# EAGLE library part BEAGLE-EXPANSIONBOARD (library Beagle)
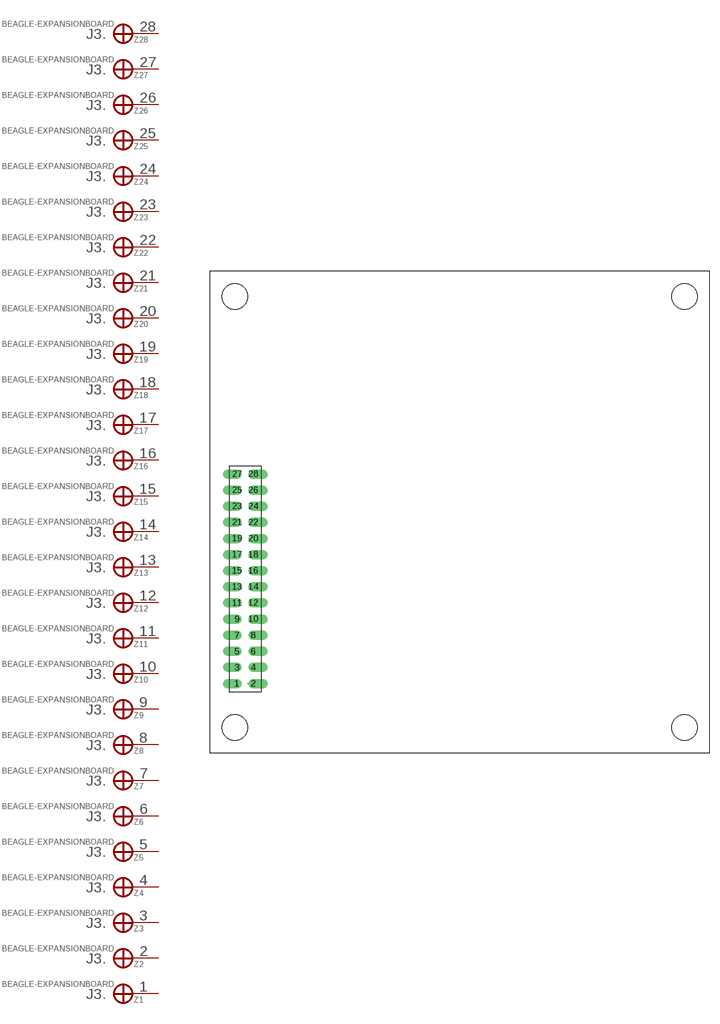
[diagram p0: symbol with the pads of BEAGLE-EXPANSIONBOARD; footprint BEAGLE-EXPANSIONBOARD]

Designator prefix Z; gates 1=J3 2=J3 3=J3 4=J3 5=J3 6=J3 7=J3 8=J3 9=J3 10=J3 11=J3 12=J3 13=J3 14=J3 15=J3 16=J3 17=J3 18=J3 19=J3 20=J3 21=J3 22=J3 23=J3 24=J3 25=J3 26=J3 27=J3 28=J3

## BEAGLE-EXPANSIONBOARD  [BEAGLE-EXPANSIONBOARD]
1  1:J3.
2  2:J3.
3  3:J3.
4  4:J3.
5  5:J3.
6  6:J3.
7  7:J3.
8  8:J3.
9  9:J3.
10  10:J3.
11  11:J3.
12  12:J3.
13  13:J3.
14  14:J3.
15  15:J3.
16  16:J3.
17  17:J3.
18  18:J3.
19  19:J3.
20  20:J3.
21  21:J3.
22  22:J3.
23  23:J3.
24  24:J3.
25  25:J3.
26  26:J3.
27  27:J3.
28  28:J3.

## Footprint BEAGLE-EXPANSIONBOARD (pad centres in mm)
drill 0.8 pad 1.524 offset: 1 5.08,12.7; 2 7.62,12.7; 3 5.08,15.24; 4 7.62,15.24; 5 5.08,17.78; 6 7.62,17.78; 7 5.08,20.32; 8 7.62,20.32; 9 5.08,22.86; 10 7.62,22.86; 11 5.08,25.4; 12 7.62,25.4; 13 5.08,27.94; 14 7.62,27.94; 15 5.08,30.48; 16 7.62,30.48; 17 5.08,33.02; 18 7.62,33.02; 19 5.08,35.56; 20 7.62,35.56; 21 5.08,38.1; 22 7.62,38.1; 23 5.08,40.64; 24 7.62,40.64; 25 5.08,43.18; 26 7.62,43.18; 27 5.08,45.72; 28 7.62,45.72
hole 4 at 4.699,5.746
hole 4 at 4.699,73.746
hole 4 at 75.698,73.746
hole 4 at 75.698,5.746